# Altium footprint library ETL_RB.PcbLib: 45 footprints (part 1 of 3)
Each footprint in its own frame and in the unit in brackets; x right, y up, seen from the top. Pads: shape width x height; smd on the part's side, far side on the other; paste and mask are expansions set on the pad; w line width, h text height; cw(c..) or ccw(c..) is an arc to the next point about the centre after c.
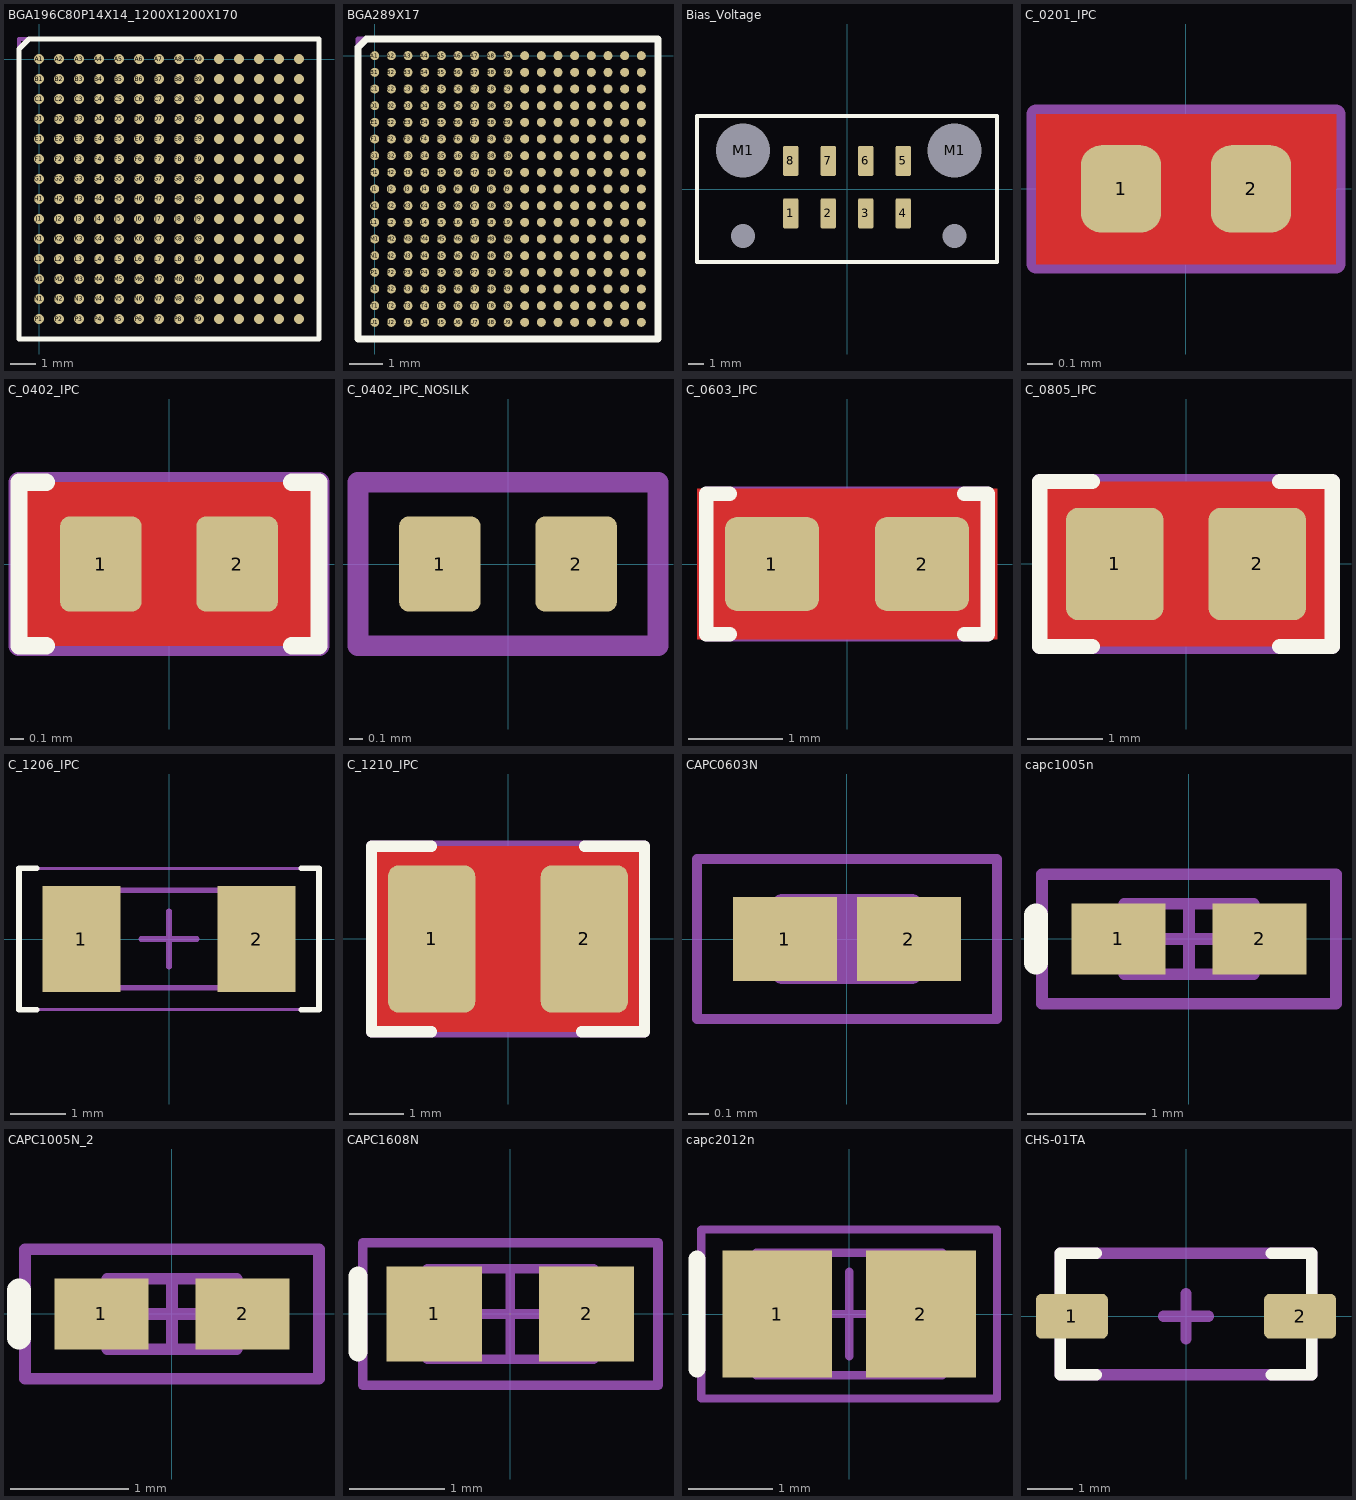
[diagram p0: the footprints below, top view; thin cyan lines are the x and y axes]

## BGA196C80P14X14_1200X1200X170 [mm] "BGA, 0.80mm Pitch, Square; 196 Pin, 14 Columns X 14 Rows, 12.00mm X 12.00mm X 1.70mm H"
height 1.7
pads (196):
  round 0.4 smd: A1(0,0) A2(0.8,0) A3(1.6,0) A4(2.4,0) A5(3.2,0) A6(4,0) A7(4.8,0) A8(5.6,0) A9(6.4,0) A10(7.2,0) A11(8,0) A12(8.8,0) A13(9.6,0) A14(10.4,0) B1(0,-0.8) B2(0.8,-0.8) B3(1.6,-0.8) B4(2.4,-0.8) B5(3.2,-0.8) B6(4,-0.8) B7(4.8,-0.8) B8(5.6,-0.8) B9(6.4,-0.8) B10(7.2,-0.8) B11(8,-0.8) B12(8.8,-0.8) B13(9.6,-0.8) B14(10.4,-0.8) C1(0,-1.6) C2(0.8,-1.6) C3(1.6,-1.6) C4(2.4,-1.6) C5(3.2,-1.6) C6(4,-1.6) C7(4.8,-1.6) C8(5.6,-1.6) C9(6.4,-1.6) C10(7.2,-1.6) C11(8,-1.6) C12(8.8,-1.6) C13(9.6,-1.6) C14(10.4,-1.6) D1(0,-2.4) D2(0.8,-2.4) D3(1.6,-2.4) D12(8.8,-2.4) D13(9.6,-2.4) D14(10.4,-2.4) E1(0,-3.2) E2(0.8,-3.2) E3(1.6,-3.2) E12(8.8,-3.2) E13(9.6,-3.2) E14(10.4,-3.2) F1(0,-4) F2(0.8,-4) F3(1.6,-4) F12(8.8,-4) F13(9.6,-4) F14(10.4,-4) G1(0,-4.8) G2(0.8,-4.8) G3(1.6,-4.8) G4(2.4,-4.8) H1(0,-5.6) H2(0.8,-5.6) H3(1.6,-5.6) H4(2.4,-5.6) J1(0,-6.4) J2(0.8,-6.4) J3(1.6,-6.4) J4(2.4,-6.4) J13(9.6,-6.4) J14(10.4,-6.4) K1(0,-7.2) K2(0.8,-7.2) K3(1.6,-7.2) K13(9.6,-7.2) K14(10.4,-7.2) L1(0,-8) L2(0.8,-8) L3(1.6,-8) L13(9.6,-8) L14(10.4,-8) M1(0,-8.8) M2(0.8,-8.8) M3(1.6,-8.8) M4(2.4,-8.8) M5(3.2,-8.8) M6(4,-8.8) M7(4.8,-8.8) M8(5.6,-8.8) M9(6.4,-8.8) M10(7.2,-8.8) M11(8,-8.8) M12(8.8,-8.8) M14(10.4,-8.8) N1(0,-9.6) N2(0.8,-9.6) N3(1.6,-9.6) N4(2.4,-9.6) N5(3.2,-9.6) N6(4,-9.6) N7(4.8,-9.6) N8(5.6,-9.6) N9(6.4,-9.6) N10(7.2,-9.6) N11(8,-9.6) N12(8.8,-9.6) N13(9.6,-9.6) N14(10.4,-9.6) P1(0,-10.4) P2(0.8,-10.4) P3(1.6,-10.4) P4(2.4,-10.4) P5(3.2,-10.4) P6(4,-10.4) P7(4.8,-10.4) P8(5.6,-10.4) P9(6.4,-10.4) P10(7.2,-10.4) P11(8,-10.4) P12(8.8,-10.4) P13(9.6,-10.4) P14(10.4,-10.4)
  round 0.4 smd mask+0.051: D4(2.4,-2.4) D5(3.2,-2.4) D6(4,-2.4) D7(4.8,-2.4) D8(5.6,-2.4) D9(6.4,-2.4) D10(7.2,-2.4) D11(8,-2.4) E4(2.4,-3.2) E5(3.2,-3.2) E6(4,-3.2) E7(4.8,-3.2) E8(5.6,-3.2) E9(6.4,-3.2) E10(7.2,-3.2) E11(8,-3.2) F4(2.4,-4) F5(3.2,-4) F6(4,-4) F7(4.8,-4) F8(5.6,-4) F9(6.4,-4) F10(7.2,-4) F11(8,-4) G5(3.2,-4.8) G6(4,-4.8) G7(4.8,-4.8) G8(5.6,-4.8) G9(6.4,-4.8) G10(7.2,-4.8) G11(8,-4.8) G12(8.8,-4.8) G13(9.6,-4.8) G14(10.4,-4.8) H5(3.2,-5.6) H6(4,-5.6) H7(4.8,-5.6) H8(5.6,-5.6) H9(6.4,-5.6) H10(7.2,-5.6) H11(8,-5.6) H12(8.8,-5.6) H13(9.6,-5.6) H14(10.4,-5.6) J5(3.2,-6.4) J6(4,-6.4) J7(4.8,-6.4) J8(5.6,-6.4) J9(6.4,-6.4) J10(7.2,-6.4) J11(8,-6.4) J12(8.8,-6.4) K4(2.4,-7.2) K5(3.2,-7.2) K6(4,-7.2) K7(4.8,-7.2) K8(5.6,-7.2) K9(6.4,-7.2) K10(7.2,-7.2) K11(8,-7.2) K12(8.8,-7.2) L4(2.4,-8) L5(3.2,-8) L6(4,-8) L7(4.8,-8) L8(5.6,-8) L9(6.4,-8) L10(7.2,-8) L11(8,-8) L12(8.8,-8) M13(9.6,-8.8)
Top Overlay:
  lines w0.2: -0.8,-11.2 11.2,-11.2 11.2,0.8 -0.4,0.8 -0.8,0.4 -0.8,-11.2
Mechanical 13:
  lines w0.152: -0.8,-11.2 -0.8,0.8 11.2,0.8 11.2,-11.2 -0.8,-11.2
3D body: height 1.7, standoff 0, extent -0.799,-11.199 11.199,0.799

## BGA289X17 [mm]
pads (289):
  round 0.27 smd: A1(0,0) A2(0.5,0) A3(1,0) A4(1.5,0) A5(2,0) A6(2.5,0) A7(3,0) A8(3.5,0) A9(4,0) A10(4.5,0) A11(5,0) A12(5.5,0) A13(6,0) A14(6.5,0) A15(7,0) A16(7.5,0) A17(8,0) B1(0,-0.5) B2(0.5,-0.5) B3(1,-0.5) B4(1.5,-0.5) B5(2,-0.5) B6(2.5,-0.5) B7(3,-0.5) B8(3.5,-0.5) B9(4,-0.5) B10(4.5,-0.5) B11(5,-0.5) B12(5.5,-0.5) B13(6,-0.5) B14(6.5,-0.5) B15(7,-0.5) B16(7.5,-0.5) B17(8,-0.5) C1(0,-1) C2(0.5,-1) C3(1,-1) C4(1.5,-1) C5(2,-1) C6(2.5,-1) C7(3,-1) C8(3.5,-1) C9(4,-1) C10(4.5,-1) C11(5,-1) C12(5.5,-1) C13(6,-1) C14(6.5,-1) C15(7,-1) C16(7.5,-1) C17(8,-1) D1(0,-1.5) D2(0.5,-1.5) D3(1,-1.5) D4(1.5,-1.5) D5(2,-1.5) D6(2.5,-1.5) D7(3,-1.5) D8(3.5,-1.5) D9(4,-1.5) D10(4.5,-1.5) D11(5,-1.5) D12(5.5,-1.5) D13(6,-1.5) D14(6.5,-1.5) D15(7,-1.5) D16(7.5,-1.5) D17(8,-1.5) E1(0,-2) E2(0.5,-2) E3(1,-2) E4(1.5,-2) E5(2,-2) E6(2.5,-2) E7(3,-2) E8(3.5,-2) E9(4,-2) E10(4.5,-2) E11(5,-2) E12(5.5,-2) E13(6,-2) E14(6.5,-2) E15(7,-2) E16(7.5,-2) E17(8,-2) F1(0,-2.5) F2(0.5,-2.5) F3(1,-2.5) F4(1.5,-2.5) F5(2,-2.5) F6(2.5,-2.5) F7(3,-2.5) F8(3.5,-2.5) F9(4,-2.5) F10(4.5,-2.5) F11(5,-2.5) F12(5.5,-2.5) F13(6,-2.5) F14(6.5,-2.5) F15(7,-2.5) F16(7.5,-2.5) F17(8,-2.5) G1(0,-3) G2(0.5,-3) G3(1,-3) G4(1.5,-3) G5(2,-3) G6(2.5,-3) G7(3,-3) G8(3.5,-3) G9(4,-3) G10(4.5,-3) G11(5,-3) G12(5.5,-3) G13(6,-3) G14(6.5,-3) G15(7,-3) G16(7.5,-3) G17(8,-3) H1(0,-3.5) H2(0.5,-3.5) H3(1,-3.5) H4(1.5,-3.5) H5(2,-3.5) H6(2.5,-3.5) H7(3,-3.5) H8(3.5,-3.5) H9(4,-3.5) H10(4.5,-3.5) H11(5,-3.5) H12(5.5,-3.5) H13(6,-3.5) H14(6.5,-3.5) H15(7,-3.5) H16(7.5,-3.5) H17(8,-3.5) J1(0,-4) J2(0.5,-4) J3(1,-4) J4(1.5,-4) J5(2,-4) J6(2.5,-4) J7(3,-4) J8(3.5,-4) J9(4,-4) J10(4.5,-4) J11(5,-4) J12(5.5,-4) J13(6,-4) J14(6.5,-4) J15(7,-4) J16(7.5,-4) J17(8,-4) K1(0,-4.5) K2(0.5,-4.5) K3(1,-4.5) K4(1.5,-4.5) K5(2,-4.5) K6(2.5,-4.5) K7(3,-4.5) K8(3.5,-4.5) K9(4,-4.5) K10(4.5,-4.5) K11(5,-4.5) K12(5.5,-4.5) K13(6,-4.5) K14(6.5,-4.5) K15(7,-4.5) K16(7.5,-4.5) K17(8,-4.5) L1(0,-5) L2(0.5,-5) L3(1,-5) L4(1.5,-5) L5(2,-5) L6(2.5,-5) L7(3,-5) L8(3.5,-5) L9(4,-5) L10(4.5,-5) L11(5,-5) L12(5.5,-5) L13(6,-5) L14(6.5,-5) L15(7,-5) L16(7.5,-5) L17(8,-5) M1(0,-5.5) M2(0.5,-5.5) M3(1,-5.5) M4(1.5,-5.5) M5(2,-5.5) M6(2.5,-5.5) M7(3,-5.5) M8(3.5,-5.5) M9(4,-5.5) M10(4.5,-5.5) M11(5,-5.5) M12(5.5,-5.5) M13(6,-5.5) M14(6.5,-5.5) M15(7,-5.5) M16(7.5,-5.5) M17(8,-5.5) N1(0,-6) N2(0.5,-6) N3(1,-6) N4(1.5,-6) N5(2,-6) N6(2.5,-6) N7(3,-6) N8(3.5,-6) N9(4,-6) N10(4.5,-6) N11(5,-6) N12(5.5,-6) N13(6,-6) N14(6.5,-6) N15(7,-6) N16(7.5,-6) N17(8,-6) P1(0,-6.5) P2(0.5,-6.5) P3(1,-6.5) P4(1.5,-6.5) P5(2,-6.5) P6(2.5,-6.5) P7(3,-6.5) P8(3.5,-6.5) P9(4,-6.5) P10(4.5,-6.5) P11(5,-6.5) P12(5.5,-6.5) P13(6,-6.5) P14(6.5,-6.5) P15(7,-6.5) P16(7.5,-6.5) P17(8,-6.5) R1(0,-7) R2(0.5,-7) R3(1,-7) R4(1.5,-7) R5(2,-7) R6(2.5,-7) R7(3,-7) R8(3.5,-7) R9(4,-7) R10(4.5,-7) R11(5,-7) R12(5.5,-7) R13(6,-7) R14(6.5,-7) R15(7,-7) R16(7.5,-7) R17(8,-7) T1(0,-7.5) T2(0.5,-7.5) T3(1,-7.5) T4(1.5,-7.5) T5(2,-7.5) T6(2.5,-7.5) T7(3,-7.5) T8(3.5,-7.5) T9(4,-7.5) T10(4.5,-7.5) T11(5,-7.5) T12(5.5,-7.5) T13(6,-7.5) T14(6.5,-7.5) T15(7,-7.5) T16(7.5,-7.5) T17(8,-7.5) U1(0,-8) U2(0.5,-8) U3(1,-8) U4(1.5,-8) U5(2,-8) U6(2.5,-8) U7(3,-8) U8(3.5,-8) U9(4,-8) U10(4.5,-8) U11(5,-8) U12(5.5,-8) U13(6,-8) U14(6.5,-8) U15(7,-8) U16(7.5,-8) U17(8,-8)
Top Overlay:
  lines w0.2: -0.5,-8.5 -0.5,0.25 -0.25,0.5 8.5,0.5 8.5,-8.5 -0.5,-8.5
Mechanical 13:
  lines w0.152: -0.5,-8.5 8.5,-8.5 8.5,0.5 -0.5,0.5 -0.5,-8.5
3D body: height 1.3, standoff 0, extent -0.499,-8.499 8.499,0.499

## Bias_Voltage [mm]
pads (12):
  rrect15% 1x2 smd: 1(-3.75,-1.625) 2(-1.25,-1.625) 3(1.25,-1.625) 4(3.75,-1.625) 5(3.75,1.875) 6(1.25,1.875) 7(-1.25,1.875) 8(-3.75,1.875)
  round 1.524 hole 3.6 unplated: M1(-6.925,2.575) M1(7.172,2.575)
  round 0.1 hole 1.6 unplated: S1(-6.925,-3.125) S1(7.172,-3.125)
Top Overlay:
  lines w0.254: -10,-4.875 10,-4.875 10,4.875 -10,4.875 -10,-4.875

## C_0201_IPC [mm]
pads (2):
  rrect50% 0.32x0.35 smd: 1(-0.26,0) 2(0.26,0)
Top Layer:
  pour cut-out: -0.6,-0.3 0.6,-0.3 0.6,0.3 -0.6,0.3
Mechanical 1:
  lines w0.076: -0.6,-0.3 -0.6,0.3 0.6,0.3 0.6,-0.3 -0.6,-0.3
  text ".Designator" at -0.47,-0.13 h0.25
Mechanical 13:
  lines w0.1: -0.315,-0.165 -0.315,0.165 0.315,0.165 0.315,-0.165 -0.315,-0.165
Mechanical 15:
  lines w0.1: -0.165,0 0.165,0 ; 0,-0.165 0,0.165
3D body "CAPC0603X02L.step": height 0.25, standoff 0, extent -0.315,-0.165 0.315,0.165

## C_0402_IPC [mm]
pads (2):
  rrect25% 0.6x0.7 smd: 1(-0.5,0) 2(0.5,0)
Top Layer:
  pour cut-out: -1.1,0.6 -1.1,-0.6 1.1,-0.6 1.1,0.6
Top Overlay:
  lines w0.127: -0.9,-0.6 -1.1,-0.6 -1.1,0.6 -0.9,0.6 ; 0.9,-0.6 1.1,-0.6 1.1,0.6 0.9,0.6
Mechanical 1:
  lines w0.152: -1.1,-0.6 1.1,-0.6 1.1,0.6 -1.1,0.6 -1.1,-0.6
  text ".Designator" at -0.9,-0.4 h0.5
3D body "CAPC1005X06M.step": height 0.55, standoff 0, extent -0.575,-0.275 0.475,0.275

## C_0402_IPC_NOSILK [mm]
pads (2):
  rrect25% 0.6x0.7 smd: 1(-0.5,0) 2(0.5,0)
Mechanical 1:
  lines w0.152: -1.1,-0.6 -1.1,0.6 1.1,0.6 1.1,-0.6 -1.1,-0.6
  text ".Designator" at -0.9,-0.4 h0.5
3D body "CAPC1005X06M.step": height 0.55, standoff 0, extent -0.575,-0.275 0.475,0.275

## C_0603_IPC [mm]
pads (2):
  rrect25% 1x1 smd: 1(-0.8,0) 2(0.8,0)
Top Layer:
  pour cut-out: -1.6,-0.8 1.6,-0.8 1.6,0.8 -1.6,0.8
Top Overlay:
  lines w0.152: -1.25,-0.75 -1.5,-0.75 -1.5,0.75 -1.25,0.75 ; 1.25,-0.75 1.5,-0.75 1.5,0.75 1.25,0.75
Mechanical 1:
  lines w0.152: -1.5,-0.75 1.5,-0.75 1.5,0.75 -1.5,0.75 -1.5,-0.75
  text ".Designator" at -1.11,-0.32 h0.7
3D body "CAPC1608X06M.step": height 0.55, standoff 0, extent -0.875,-0.475 0.875,0.475

## C_0805_IPC [mm]
pads (2):
  rrect25% 1.3x1.5 smd: 1(-0.95,0) 2(0.95,0)
Top Layer:
  pour cut-out: -2,-1.1 2,-1.1 2,1.1 -2,1.1
Top Overlay:
  lines w0.203: -1.25,-1.1 -1.95,-1.1 -1.95,1.1 -1.25,1.1 ; 1.25,-1.1 1.95,-1.1 1.95,1.1 1.25,1.1
Mechanical 1:
  lines w0.203: -1.95,-1.1 -1.95,1.1 1.95,1.1 1.95,-1.1 -1.95,-1.1
  text ".Designator" at -1.4,-0.4 h0.7
3D body "CAPC2012X14M.step": height 1.35, standoff 0, extent -1.1,-0.675 1.1,0.675

## C_1206_IPC [mm] "Chip Capacitor, 2-Leads, Body 3.27x1.60mm, IPC Low Density"
height 1.75
pads (2):
  rect 1.4x1.9 smd: 1(-1.575,0) 2(1.575,0)
Top Overlay:
  lines w0.102: -2.381,-1.27 -2.699,-1.27 -2.699,1.27 -2.381,1.27 ; 2.381,-1.27 2.699,-1.27 2.699,1.27 2.381,1.27
Mechanical 13:
  lines w0.1: -1.7,-0.875 1.7,-0.875 1.7,0.875 -1.7,0.875 -1.7,-0.875
Mechanical 15:
  lines w0.05: -2.699,-1.27 2.699,-1.27 2.699,1.27 -2.699,1.27 -2.699,-1.27
  lines w0.1: -0.5,0 0.5,0 ; 0,-0.5 0,0.5
3D body "C1206.step": height 1.75, standoff 0, extent -1.7,-0.875 1.7,0.875

## C_1210_IPC [mm]
pads (2):
  rrect25% 1.6x2.7 smd: 1(-1.4,0) 2(1.4,0)
Top Layer:
  pour cut-out: -2.5,-1.7 2.5,-1.7 2.5,1.7 -2.5,1.7
Top Overlay:
  lines w0.203: -1.4,-1.7 -2.5,-1.7 -2.5,1.7 -1.4,1.7 ; 1.35,-1.7 2.5,-1.7 2.5,1.7 1.4,1.7
Mechanical 1:
  lines w0.203: -2.5,-1.7 2.5,-1.7 2.5,1.7 -2.5,1.7 -2.5,-1.7
  text ".Designator" at -1.8,-0.3 h0.7
3D body "C1210.step": height 2.7, standoff 0, extent -1.7,-1.35 1.7,1.35

## CAPC0603N [mm] "Chip Capacitor, 2-Leads, Body 0.60x0.30mm, IPC Medium Density"
height 0.3
pads (2):
  rect 0.52x0.42 smd: 1(-0.31,0) 2(0.31,0)
Mechanical 13:
  lines w0.1: -0.325,-0.175 0.325,-0.175 0.325,0.175 -0.325,0.175 -0.325,-0.175
Mechanical 15:
  lines w0.05: -0.75,-0.4 0.75,-0.4 0.75,0.4 -0.75,0.4 -0.75,-0.4
  lines w0.1: -0.175,0 0.175,0 ; 0,-0.175 0,0.175
3D body: height 0.3, standoff 0, extent -0.324,-0.174 0.324,0.174

## capc1005n [mm] "Chip Capacitor, Body 1.0x0.5mm, IPC Medium Density"
height 0.6
pads (2):
  rect 0.8x0.6 smd: 1(-0.6,0) 2(0.6,0)
Top Overlay:
  lines w0.2: -1.3,-0.2 -1.3,0.2
Mechanical 13:
  lines w0.1: -0.55,-0.3 0.55,-0.3 0.55,0.3 -0.55,0.3 -0.55,-0.3
Mechanical 15:
  lines w0.1: -0.3,0 0.3,0 ; 0,-0.3 0,0.3 ; -1.25,-0.55 1.25,-0.55 1.25,0.55 -1.25,0.55 -1.25,-0.55
3D body: height 0.6, standoff 0, extent -0.55,-0.3 0.55,0.3

## CAPC1005N_2 [mm]
pads (2):
  rect 0.8x0.6 smd: 1(-0.6,0) 2(0.6,0)
Top Overlay:
  lines w0.2: -1.3,-0.2 -1.3,0.2
Mechanical 13:
  lines w0.1: -0.55,-0.3 0.55,-0.3 0.55,0.3 -0.55,0.3 -0.55,-0.3
Mechanical 15:
  lines w0.1: -0.3,0 0.3,0 ; 0,-0.3 0,0.3 ; -1.25,-0.55 1.25,-0.55 1.25,0.55 -1.25,0.55 -1.25,-0.55
3D body: height 0.6, standoff 0, extent -0.55,-0.3 0.55,0.3

## CAPC1608N [mm] "Chip Capacitor, Body 1.6x0.8mm, IPC Medium Density"
height 0.85
pads (2):
  rect 1x1 smd: 1(-0.8,0) 2(0.8,0)
Top Overlay:
  lines w0.2: -1.6,-0.4 -1.6,0.4
Mechanical 13:
  lines w0.1: -0.875,-0.475 -0.875,0.475 0.875,0.475 0.875,-0.475 -0.875,-0.475
Mechanical 15:
  lines w0.1: -0.475,0 0.475,0 ; 0,-0.475 0,0.475 ; -1.55,-0.75 -1.55,0.75 1.55,0.75 1.55,-0.75 -1.55,-0.75
3D body: height 0.55, standoff 0, extent -0.875,-0.475 0.875,0.475

## capc2012n [mm] "Chip Capacitor, Body 2.0x1.3mm, IPC Medium Density"
height 1.1
pads (2):
  rect 1.3x1.5 smd: 1(-0.85,0) 2(0.85,0)
Top Overlay:
  lines w0.2: -1.8,-0.65 -1.8,0.65
Mechanical 13:
  lines w0.1: -1.1,-0.725 -1.1,0.725 1.1,0.725 1.1,-0.725 -1.1,-0.725
Mechanical 15:
  lines w0.1: -0.5,0 0.5,0 ; 0,-0.5 0,0.5 ; -1.75,-1 -1.75,1 1.75,1 1.75,-1 -1.75,-1
3D body: height 1.1, standoff 0, extent -1.1,-0.725 1.1,0.725

## CHS-01TA [mm]
pads (2):
  rrect25% 1.6x1 smd: 1(-2.54,0) 2(2.54,0)
Top Overlay:
  lines w0.254: -2,-1.3 -2.8,-1.3 -2.8,1.4 -2,1.4 ; 1.9,-1.3 2.8,-1.3 2.8,1.4 1.9,1.4
Mechanical 1:
  lines w0.254: -2.8,-1.3 2.8,-1.3 2.8,1.4 -2.8,1.4 -2.8,-1.3
  text ".Designator" at -2.3,-0.3 h0.8
Mechanical 15:
  lines w0.254: -0.5,0 0.5,0 ; 0,-0.5 0,0.5
3D body "CHS-01TA.stp": height 2.56, standoff -0.04, extent -2.8,-1.252 2.8,1.334